# Altium footprint library HJ-581.PcbLib: 1 footprints
Each footprint in its own frame and in the unit in brackets; x right, y up, seen from the top. Pads: shape width x height; smd on the part's side, far side on the other; paste and mask are expansions set on the pad; w line width, h text height; cw(c..) or ccw(c..) is an arc to the next point about the centre after c.
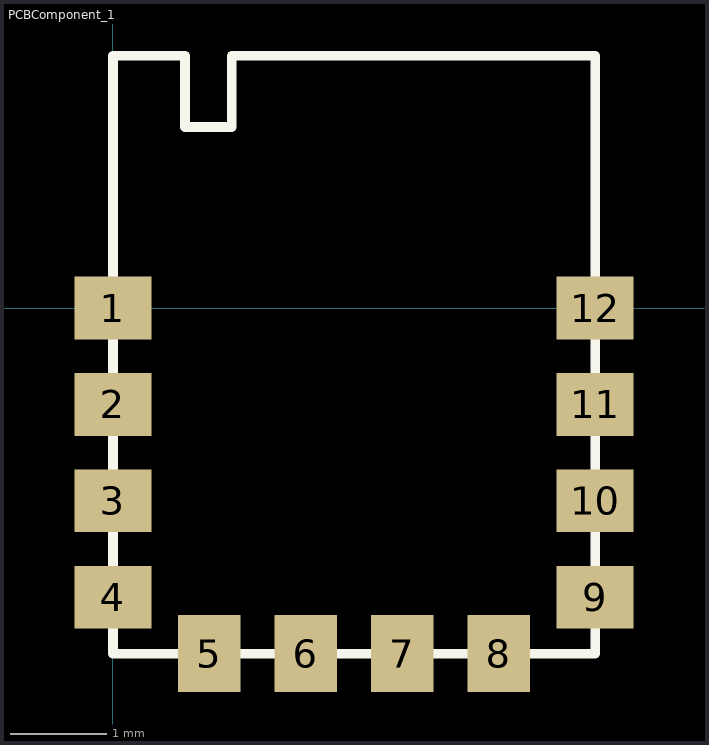
[diagram p0: the footprint, top view; thin cyan lines are the x and y axes]

## PCBComponent_1 [mm]
pads (12):
  rect 0.8x0.65 smd mask+0.03: 1(0,0) 2(0,-1) 3(0,-2) 4(0,-3) 9(5,-3) 10(5,-2) 11(5,-1) 12(5,0)
  rect 0.65x0.8 smd mask+0.03: 5(1,-3.584) 6(2,-3.584) 7(3,-3.584) 8(4,-3.584)
Top Overlay:
  lines w0.1: 0,-3.584 0,2.616 0.748,2.616 0.748,1.877 1.23,1.877 1.23,2.616 5,2.616 5,-3.584 0,-3.584